# Altium footprint library PCB - CAPACITOR - FILM - C4AQCBW5200A3FJ.PCBLIB: 1 footprints
Each footprint in its own frame and in the unit in brackets; x right, y up, seen from the top. Pads: shape width x height; smd on the part's side, far side on the other; paste and mask are expansions set on the pad; w line width, h text height; cw(c..) or ccw(c..) is an arc to the next point about the centre after c.
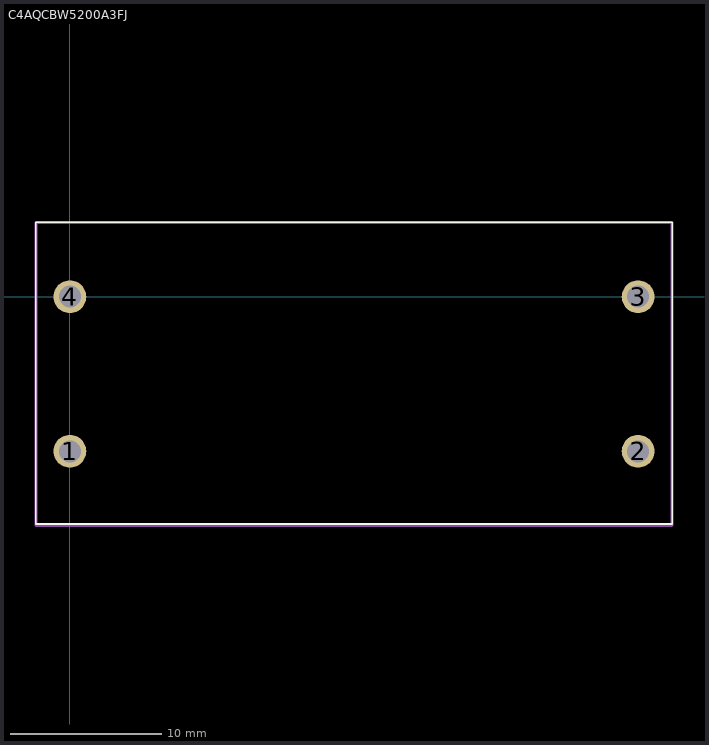
[diagram p0: the footprint, top view; thin cyan lines are the x and y axes]

## C4AQCBW5200A3FJ [mm]
pads (4):
  round 2.175 hole 1.45: 1(0,-10.2) 2(37.5,-10.2) 3(37.5,0) 4(0,0)
Top Overlay:
  lines w0.1: -2.25,-15 -2.25,4.9 39.75,4.9 39.75,-15 -2.25,-15
Top Value (Mech13):
  lines w0.2: -2.25,-15.1 -2.25,4.9 39.75,4.9 39.75,-15.1 -2.25,-15.1
3D body "C4AQCBW5200A3FJ.stp": height 40.2, standoff -6, extent -2.64,-15.305 39.96,5.1